# Altium footprint library UmbilicalBoardV2.PcbLib: 20 footprints (part 2 of 2)
Each footprint in its own frame and in the unit in brackets; x right, y up, seen from the top. Pads: shape width x height; smd on the part's side, far side on the other; paste and mask are expansions set on the pad; w line width, h text height; cw(c..) or ccw(c..) is an arc to the next point about the centre after c.
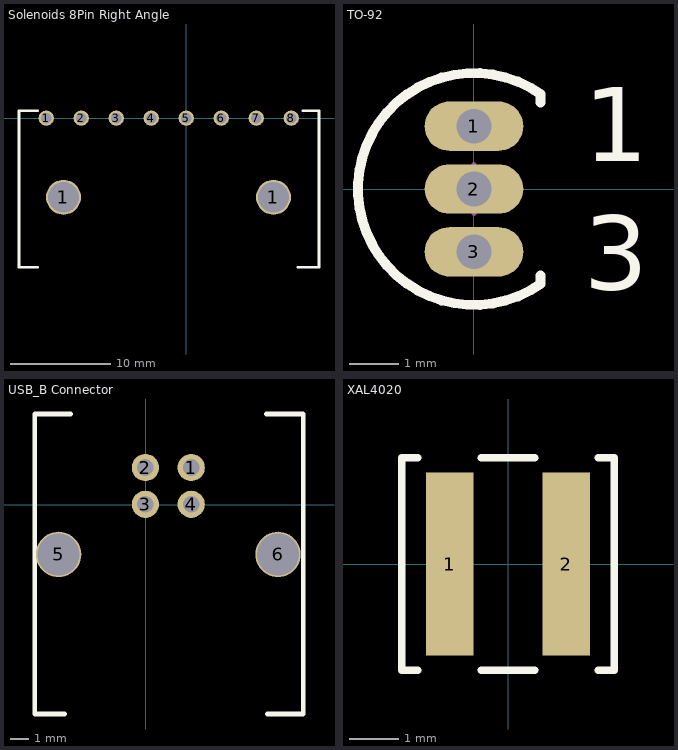
[diagram p1: the footprints below, top view; thin cyan lines are the x and y axes]

## Solenoids 8Pin Right Angle [mm]
pads (10):
  round 1.524 hole 1.06: 1(-14,0) 2(-10.5,0) 3(-7,0) 4(-3.5,0) 5(0,0) 6(3.5,0) 7(7,0) 8(10.5,0)
  round 3.5 hole 3.09: 1(-12.275,-7.91) 1(8.725,-7.91)
Top Overlay:
  lines w0.254: -14.875,-14.889 -16.725,-14.889 -16.725,0.75 -14.875,0.75 ; 11.175,-14.925 13.275,-14.925 13.275,0.725 ; 11.65,0.739 13.275,0.739
3D body "1723101108.stp": height 6.06, standoff -6.1, extent -16.725,-14.889 13.275,0.739

## TO-92 [mm]
pads (3):
  oval 2x1 hole 0.7: 1(0,1.27) 2(0,0) 3(0,-1.27)
Top Overlay:
  lines w0.2: 1.35,-1.75 1.35,-1.92 cw(c0,0) 1.35,1.92 1.35,1.75
  text "3" at 2.224,-2.035 h1.5
  text "1" at 2.224,0.56 h1.5
Mechanical 15:
  lines w0.1: -0.5,0 0.5,0 ; 0,-0.5 0,0.5

## USB_B Connector [mm]
pads (6):
  round 1.5 hole 0.92 mask+0.076: 1(2.5,2.05) 2(-0.025,2.05) 3(-0.025,0.025) 4(2.5,0.025)
  round 2.5 hole 2.33 mask+0.076: 5(-4.808,-2.735) 6(7.282,-2.735)
Top Overlay:
  lines w0.254: -4.475,-11.525 -6.125,-11.525 -6.125,5 -4.15,5 ; 6.625,5 8.675,5 8.675,-11.525 6.7,-11.525
3D body "USB-B-S-X-X-TH-X.step": height 0, standoff -14.64, extent -6.125,-11.525 8.675,4.975

## XAL4020 [mil]
pads (2):
  rect 38x146 smd: 1(-46.5,0) 2(46.5,0)
Top Overlay:
  lines w6: -71.77,-84.5 -84.5,-84.5 -84.5,84.5 -71.77,84.5 ; -21.23,-84.5 21.23,-84.5 ; -21.23,84.5 21.23,84.5 ; 71.77,-84.5 84.5,-84.5 84.5,84.5 71.77,84.5